# Altium footprint library 613 0xx 218 21.PcbLib: 21 footprints (part 1 of 2)
Each footprint in its own frame and in the unit in brackets; x right, y up, seen from the top. Pads: shape width x height; smd on the part's side, far side on the other; paste and mask are expansions set on the pad; w line width, h text height; cw(c..) or ccw(c..) is an arc to the next point about the centre after c.
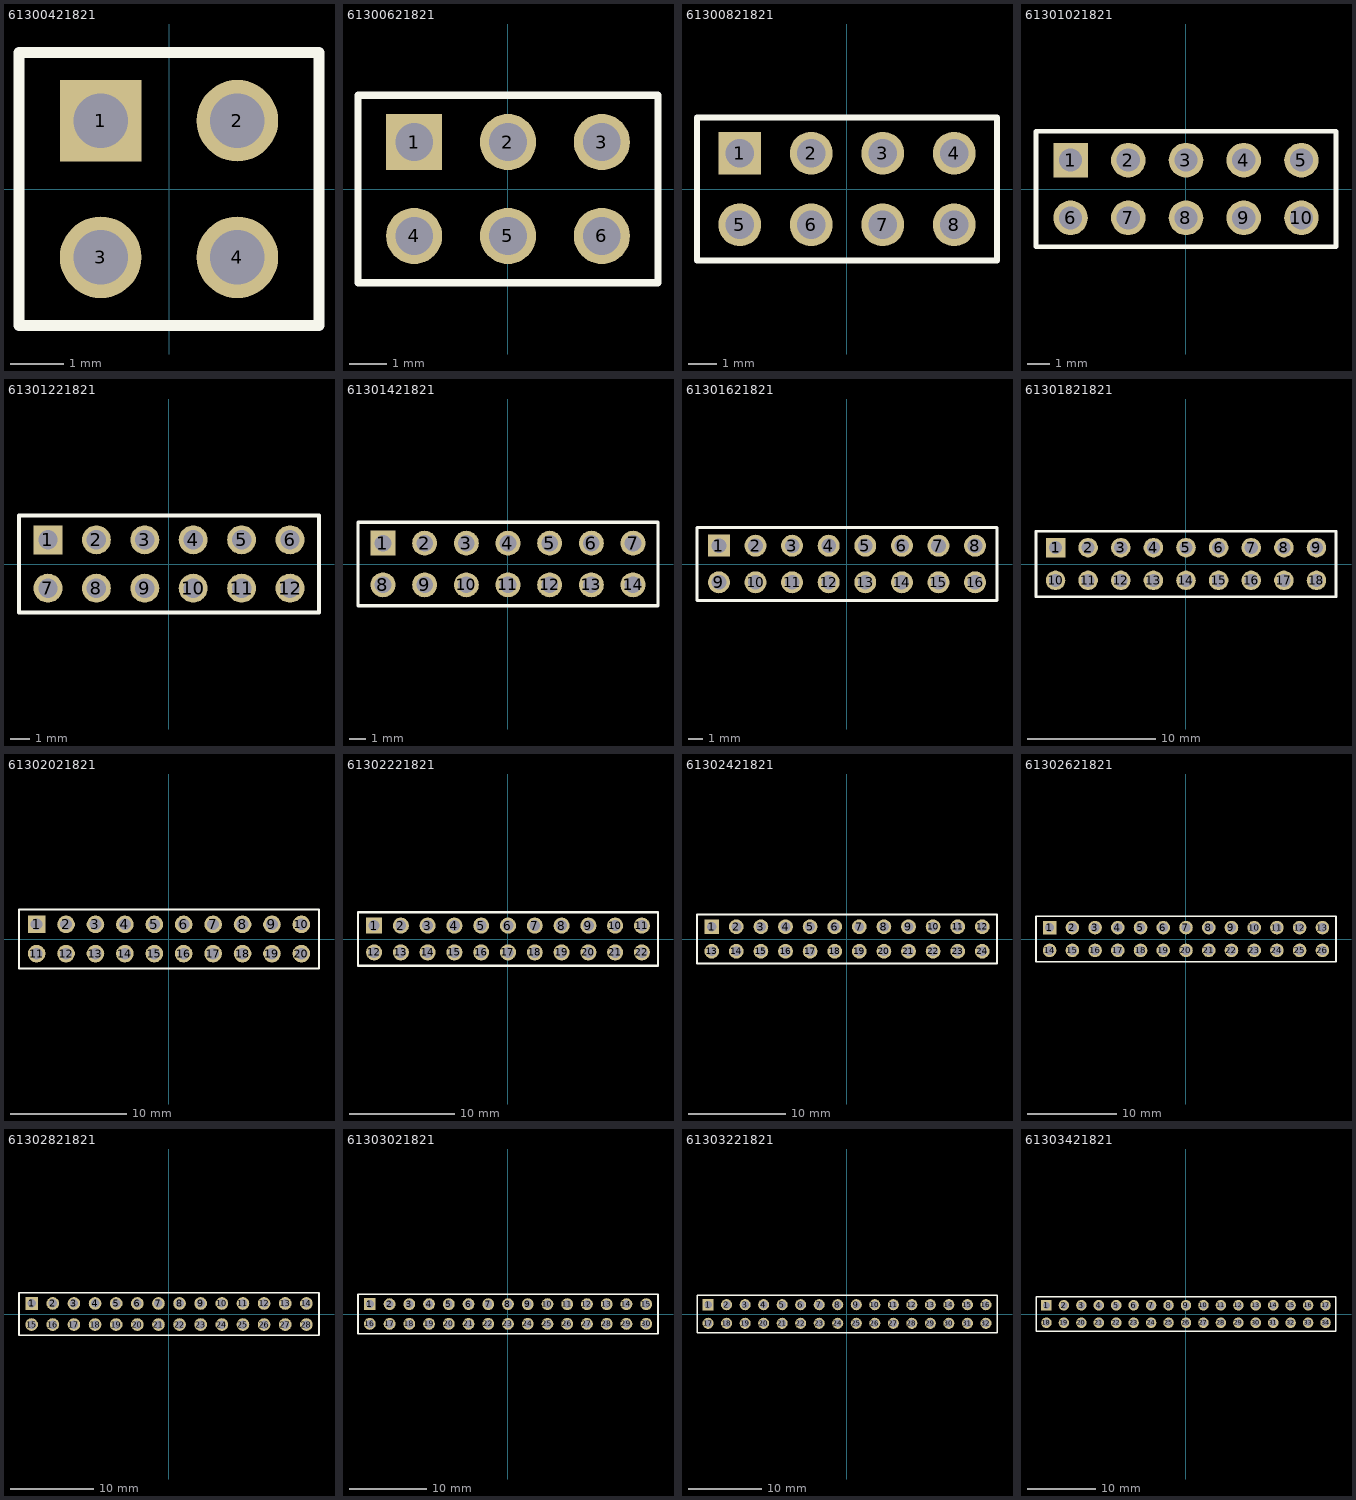
[diagram p0: the footprints below, top view; thin cyan lines are the x and y axes]

## 61300421821 [mm] "4 pins, dual row, straight, gold plating"
height 8.5
pads (4):
  rect 1.52x1.52 hole 1.02: 1(-1.27,1.27)
  round 1.52 hole 1.02: 2(1.27,1.27) 3(-1.27,-1.27) 4(1.27,-1.27)
Top Overlay:
  lines w0.2: -2.79,-2.54 -2.79,2.54 2.79,2.54 2.79,-2.54 -2.79,-2.54
3D body "61300421821.stp": height 8.45, standoff -3.1, extent -2.79,-2.54 2.79,2.54

## 61300621821 [mm] "6 pins, dual row, straight, gold plating"
height 8.5
pads (6):
  rect 1.52x1.52 hole 1.02: 1(-2.54,1.27)
  round 1.52 hole 1.02: 2(0,1.27) 3(2.54,1.27) 4(-2.54,-1.27) 5(0,-1.27) 6(2.54,-1.27)
Top Overlay:
  lines w0.2: -4.06,-2.54 -4.06,2.54 4.06,2.54 4.06,-2.54 -4.06,-2.54
3D body "61300621821.stp": height 8.45, standoff -3.1, extent -4.06,-2.54 4.06,2.54

## 61300821821 [mm] "8 pins, dual row, straight, gold plating"
height 8.5
pads (8):
  rect 1.52x1.52 hole 1.02: 1(-3.81,1.27)
  round 1.52 hole 1.02: 2(-1.27,1.27) 3(1.27,1.27) 4(3.81,1.27) 5(-3.81,-1.27) 6(-1.27,-1.27) 7(1.27,-1.27) 8(3.81,-1.27)
Top Overlay:
  lines w0.2: -5.33,-2.54 5.33,-2.54 5.33,2.54 -5.33,2.54 -5.33,-2.54
3D body "61300821821.stp": height 8.45, standoff -3.1, extent -5.33,-2.54 5.33,2.54

## 61301021821 [mm] "10 pins, dual row, straight, gold plating"
height 8.5
pads (10):
  rect 1.52x1.52 hole 1.02: 1(-5.08,1.27)
  round 1.52 hole 1.02: 2(-2.54,1.27) 3(0,1.27) 4(2.54,1.27) 5(5.08,1.27) 6(-5.08,-1.27) 7(-2.54,-1.27) 8(0,-1.27) 9(2.54,-1.27) 10(5.08,-1.27)
Top Overlay:
  lines w0.2: -6.6,-2.54 -6.6,2.54 6.6,2.54 6.6,-2.54 -6.6,-2.54
3D body "61301021821.stp": height 8.45, standoff -3.05, extent -6.6,-2.54 6.6,2.54

## 61301221821 [mm] "12 pins, dual row, straight, gold plating"
height 8.5
pads (12):
  rect 1.52x1.52 hole 1.02: 1(-6.35,1.27)
  round 1.52 hole 1.02: 2(-3.81,1.27) 3(-1.27,1.27) 4(1.27,1.27) 5(3.81,1.27) 6(6.35,1.27) 7(-6.35,-1.27) 8(-3.81,-1.27) 9(-1.27,-1.27) 10(1.27,-1.27) 11(3.81,-1.27) 12(6.35,-1.27)
Top Overlay:
  lines w0.2: -7.87,-2.54 7.87,-2.54 7.87,2.54 -7.87,2.54 -7.87,-2.54
3D body "61301221821.stp": height 8.45, standoff -3.1, extent -7.87,-2.54 7.87,2.54

## 61301421821 [mm] "14 pins, dual row, straight, gold plating"
height 8.5
pads (14):
  rect 1.52x1.52 hole 1.02: 1(-7.62,1.27)
  round 1.52 hole 1.02: 2(-5.08,1.27) 3(-2.54,1.27) 4(0,1.27) 5(2.54,1.27) 6(5.08,1.27) 7(7.62,1.27) 8(-7.62,-1.27) 9(-5.08,-1.27) 10(-2.54,-1.27) 11(0,-1.27) 12(2.54,-1.27) 13(5.08,-1.27) 14(7.62,-1.27)
Top Overlay:
  lines w0.2: -9.14,-2.54 -9.14,2.54 9.14,2.54 9.14,-2.54 -9.14,-2.54
3D body "61301421821.stp": height 8.45, standoff -3.1, extent -9.14,-2.54 9.14,2.54

## 61301621821 [mm] "16 pins, dual row, straight, gold plating"
height 8.5
pads (16):
  rect 1.52x1.52 hole 1.02: 1(-8.89,1.27)
  round 1.52 hole 1.02: 2(-6.35,1.27) 3(-3.81,1.27) 4(-1.27,1.27) 5(1.27,1.27) 6(3.81,1.27) 7(6.35,1.27) 8(8.89,1.27) 9(-8.89,-1.27) 10(-6.35,-1.27) 11(-3.81,-1.27) 12(-1.27,-1.27) 13(1.27,-1.27) 14(3.81,-1.27) 15(6.35,-1.27) 16(8.89,-1.27)
Top Overlay:
  lines w0.2: -10.41,-2.54 10.41,-2.54 10.41,2.54 -10.41,2.54 -10.41,-2.54
3D body "61301621821.stp": height 8.45, standoff -3.1, extent -10.41,-2.54 10.41,2.54

## 61301821821 [mm] "18 pins, dual row, straight, gold plating"
height 8.5
pads (18):
  rect 1.52x1.52 hole 1.02: 1(-10.16,1.27)
  round 1.52 hole 1.02: 2(-7.62,1.27) 3(-5.08,1.27) 4(-2.54,1.27) 5(0,1.27) 6(2.54,1.27) 7(5.08,1.27) 8(7.62,1.27) 9(10.16,1.27) 10(-10.16,-1.27) 11(-7.62,-1.27) 12(-5.08,-1.27) 13(-2.54,-1.27) 14(0,-1.27) 15(2.54,-1.27) 16(5.08,-1.27) 17(7.62,-1.27) 18(10.16,-1.27)
Top Overlay:
  lines w0.2: -11.68,-2.54 -11.68,2.54 11.68,2.54 11.68,-2.54 -11.68,-2.54
3D body "61301821821.stp": height 8.45, standoff -3.1, extent -11.68,-2.54 11.68,2.54

## 61302021821 [mm] "20 pins, dual row, straight, gold plating"
height 8.5
pads (20):
  rect 1.52x1.52 hole 1.02: 1(-11.43,1.27)
  round 1.52 hole 1.02: 2(-8.89,1.27) 3(-6.35,1.27) 4(-3.81,1.27) 5(-1.27,1.27) 6(1.27,1.27) 7(3.81,1.27) 8(6.35,1.27) 9(8.89,1.27) 10(11.43,1.27) 11(-11.43,-1.27) 12(-8.89,-1.27) 13(-6.35,-1.27) 14(-3.81,-1.27) 15(-1.27,-1.27) 16(1.27,-1.27) 17(3.81,-1.27) 18(6.35,-1.27) 19(8.89,-1.27) 20(11.43,-1.27)
Top Overlay:
  lines w0.2: -12.95,-2.54 12.95,-2.54 12.95,2.54 -12.95,2.54 -12.95,-2.54
3D body "61302021821.stp": height 8.45, standoff -3.1, extent -12.95,-2.54 12.95,2.54

## 61302221821 [mm] "22 pins, dual row, straight, gold plating"
height 8.5
pads (22):
  rect 1.52x1.52 hole 1.02: 1(-12.7,1.27)
  round 1.52 hole 1.02: 2(-10.16,1.27) 3(-7.62,1.27) 4(-5.08,1.27) 5(-2.54,1.27) 6(0,1.27) 7(2.54,1.27) 8(5.08,1.27) 9(7.62,1.27) 10(10.16,1.27) 11(12.7,1.27) 12(-12.7,-1.27) 13(-10.16,-1.27) 14(-7.62,-1.27) 15(-5.08,-1.27) 16(-2.54,-1.27) 17(0,-1.27) 18(2.54,-1.27) 19(5.08,-1.27) 20(7.62,-1.27) 21(10.16,-1.27) 22(12.7,-1.27)
Top Overlay:
  lines w0.2: -14.22,-2.54 -14.22,2.54 14.22,2.54 14.22,-2.54 -14.22,-2.54
3D body "61302221821.stp": height 8.45, standoff -3.1, extent -14.22,-2.54 14.22,2.54

## 61302421821 [mm] "24 pins, dual row, straight, gold plating"
height 8.5
pads (24):
  rect 1.52x1.52 hole 1.02: 1(-13.97,1.27)
  round 1.52 hole 1.02: 2(-11.43,1.27) 3(-8.89,1.27) 4(-6.35,1.27) 5(-3.81,1.27) 6(-1.27,1.27) 7(1.27,1.27) 8(3.81,1.27) 9(6.35,1.27) 10(8.89,1.27) 11(11.43,1.27) 12(13.97,1.27) 13(-13.97,-1.27) 14(-11.43,-1.27) 15(-8.89,-1.27) 16(-6.35,-1.27) 17(-3.81,-1.27) 18(-1.27,-1.27) 19(1.27,-1.27) 20(3.81,-1.27) 21(6.35,-1.27) 22(8.89,-1.27) 23(11.43,-1.27) 24(13.97,-1.27)
Top Overlay:
  lines w0.2: -15.49,-2.54 15.49,-2.54 15.49,2.54 -15.49,2.54 -15.49,-2.54
3D body "61302421821.stp": height 8.45, standoff -3.1, extent -15.49,-2.54 15.49,2.54

## 61302621821 [mm] "26 pins, dual row, straight, gold plating"
height 8.5
pads (26):
  rect 1.52x1.52 hole 1.02: 1(-15.24,1.27)
  round 1.52 hole 1.02: 2(-12.7,1.27) 3(-10.16,1.27) 4(-7.62,1.27) 5(-5.08,1.27) 6(-2.54,1.27) 7(0,1.27) 8(2.54,1.27) 9(5.08,1.27) 10(7.62,1.27) 11(10.16,1.27) 12(12.7,1.27) 13(15.24,1.27) 14(-15.24,-1.27) 15(-12.7,-1.27) 16(-10.16,-1.27) 17(-7.62,-1.27) 18(-5.08,-1.27) 19(-2.54,-1.27) 20(0,-1.27) 21(2.54,-1.27) 22(5.08,-1.27) 23(7.62,-1.27) 24(10.16,-1.27) 25(12.7,-1.27) 26(15.24,-1.27)
Top Overlay:
  lines w0.2: -16.76,-2.54 -16.76,2.54 16.76,2.54 16.76,-2.54 -16.76,-2.54
3D body "61302621821.stp": height 8.45, standoff -3.1, extent -16.76,-2.54 16.76,2.54

## 61302821821 [mm] "28 pins, dual row, straight, gold plating"
height 8.5
pads (28):
  rect 1.52x1.52 hole 1.02: 1(-16.51,1.27)
  round 1.52 hole 1.02: 2(-13.97,1.27) 3(-11.43,1.27) 4(-8.89,1.27) 5(-6.35,1.27) 6(-3.81,1.27) 7(-1.27,1.27) 8(1.27,1.27) 9(3.81,1.27) 10(6.35,1.27) 11(8.89,1.27) 12(11.43,1.27) 13(13.97,1.27) 14(16.51,1.27) 15(-16.51,-1.27) 16(-13.97,-1.27) 17(-11.43,-1.27) 18(-8.89,-1.27) 19(-6.35,-1.27) 20(-3.81,-1.27) 21(-1.27,-1.27) 22(1.27,-1.27) 23(3.81,-1.27) 24(6.35,-1.27) 25(8.89,-1.27) 26(11.43,-1.27) 27(13.97,-1.27) 28(16.51,-1.27)
Top Overlay:
  lines w0.2: -18.03,-2.54 18.03,-2.54 18.03,2.54 -18.03,2.54 -18.03,-2.54
3D body "61302821821.stp": height 8.45, standoff -3.1, extent -18.03,-2.54 18.03,2.54

## 61303021821 [mm] "30 pins, dual row, straight, gold plating"
height 8.5
pads (30):
  rect 1.52x1.52 hole 1.02: 1(-17.78,1.27)
  round 1.52 hole 1.02: 2(-15.24,1.27) 3(-12.7,1.27) 4(-10.16,1.27) 5(-7.62,1.27) 6(-5.08,1.27) 7(-2.54,1.27) 8(0,1.27) 9(2.54,1.27) 10(5.08,1.27) 11(7.62,1.27) 12(10.16,1.27) 13(12.7,1.27) 14(15.24,1.27) 15(17.78,1.27) 16(-17.78,-1.27) 17(-15.24,-1.27) 18(-12.7,-1.27) 19(-10.16,-1.27) 20(-7.62,-1.27) 21(-5.08,-1.27) 22(-2.54,-1.27) 23(0,-1.27) 24(2.54,-1.27) 25(5.08,-1.27) 26(7.62,-1.27) 27(10.16,-1.27) 28(12.7,-1.27) 29(15.24,-1.27) 30(17.78,-1.27)
Top Overlay:
  lines w0.2: -19.3,-2.54 -19.3,2.54 19.3,2.54 19.3,-2.54 -19.3,-2.54
3D body "61303021821.stp": height 8.45, standoff -3.1, extent -19.3,-2.54 19.3,2.54

## 61303221821 [mm] "32 pins, dual row, straight, gold plating"
height 8.5
pads (32):
  rect 1.52x1.52 hole 1.02: 1(-19.05,1.27)
  round 1.52 hole 1.02: 2(-16.51,1.27) 3(-13.97,1.27) 4(-11.43,1.27) 5(-8.89,1.27) 6(-6.35,1.27) 7(-3.81,1.27) 8(-1.27,1.27) 9(1.27,1.27) 10(3.81,1.27) 11(6.35,1.27) 12(8.89,1.27) 13(11.43,1.27) 14(13.97,1.27) 15(16.51,1.27) 16(19.05,1.27) 17(-19.05,-1.27) 18(-16.51,-1.27) 19(-13.97,-1.27) 20(-11.43,-1.27) 21(-8.89,-1.27) 22(-6.35,-1.27) 23(-3.81,-1.27) 24(-1.27,-1.27) 25(1.27,-1.27) 26(3.81,-1.27) 27(6.35,-1.27) 28(8.89,-1.27) 29(11.43,-1.27) 30(13.97,-1.27) 31(16.51,-1.27) 32(19.05,-1.27)
Top Overlay:
  lines w0.2: -20.57,-2.54 20.57,-2.54 20.57,2.54 -20.57,2.54 -20.57,-2.54
3D body "61303221821.stp": height 8.45, standoff -3.1, extent -20.57,-2.54 20.57,2.54

## 61303421821 [mm] "34 pins, dual row, straight, gold plating"
height 8.5
pads (34):
  rect 1.52x1.52 hole 1.02: 1(-20.32,1.27)
  round 1.52 hole 1.02: 2(-17.78,1.27) 3(-15.24,1.27) 4(-12.7,1.27) 5(-10.16,1.27) 6(-7.62,1.27) 7(-5.08,1.27) 8(-2.54,1.27) 9(0,1.27) 10(2.54,1.27) 11(5.08,1.27) 12(7.62,1.27) 13(10.16,1.27) 14(12.7,1.27) 15(15.24,1.27) 16(17.78,1.27) 17(20.32,1.27) 18(-20.32,-1.27) 19(-17.78,-1.27) 20(-15.24,-1.27) 21(-12.7,-1.27) 22(-10.16,-1.27) 23(-7.62,-1.27) 24(-5.08,-1.27) 25(-2.54,-1.27) 26(0,-1.27) 27(2.54,-1.27) 28(5.08,-1.27) 29(7.62,-1.27) 30(10.16,-1.27) 31(12.7,-1.27) 32(15.24,-1.27) 33(17.78,-1.27) 34(20.32,-1.27)
Top Overlay:
  lines w0.2: -21.84,-2.54 -21.84,2.54 21.84,2.54 21.84,-2.54 -21.84,-2.54
3D body "61303421821.stp": height 8.45, standoff -3.1, extent -21.84,-2.54 21.84,2.54